# Altium footprint library XH-JST_2.5mm.PcbLib: 27 footprints (part 1 of 2)
Each footprint in its own frame and in the unit in brackets; x right, y up, seen from the top. Pads: shape width x height; smd on the part's side, far side on the other; paste and mask are expansions set on the pad; w line width, h text height; cw(c..) or ccw(c..) is an arc to the next point about the centre after c.
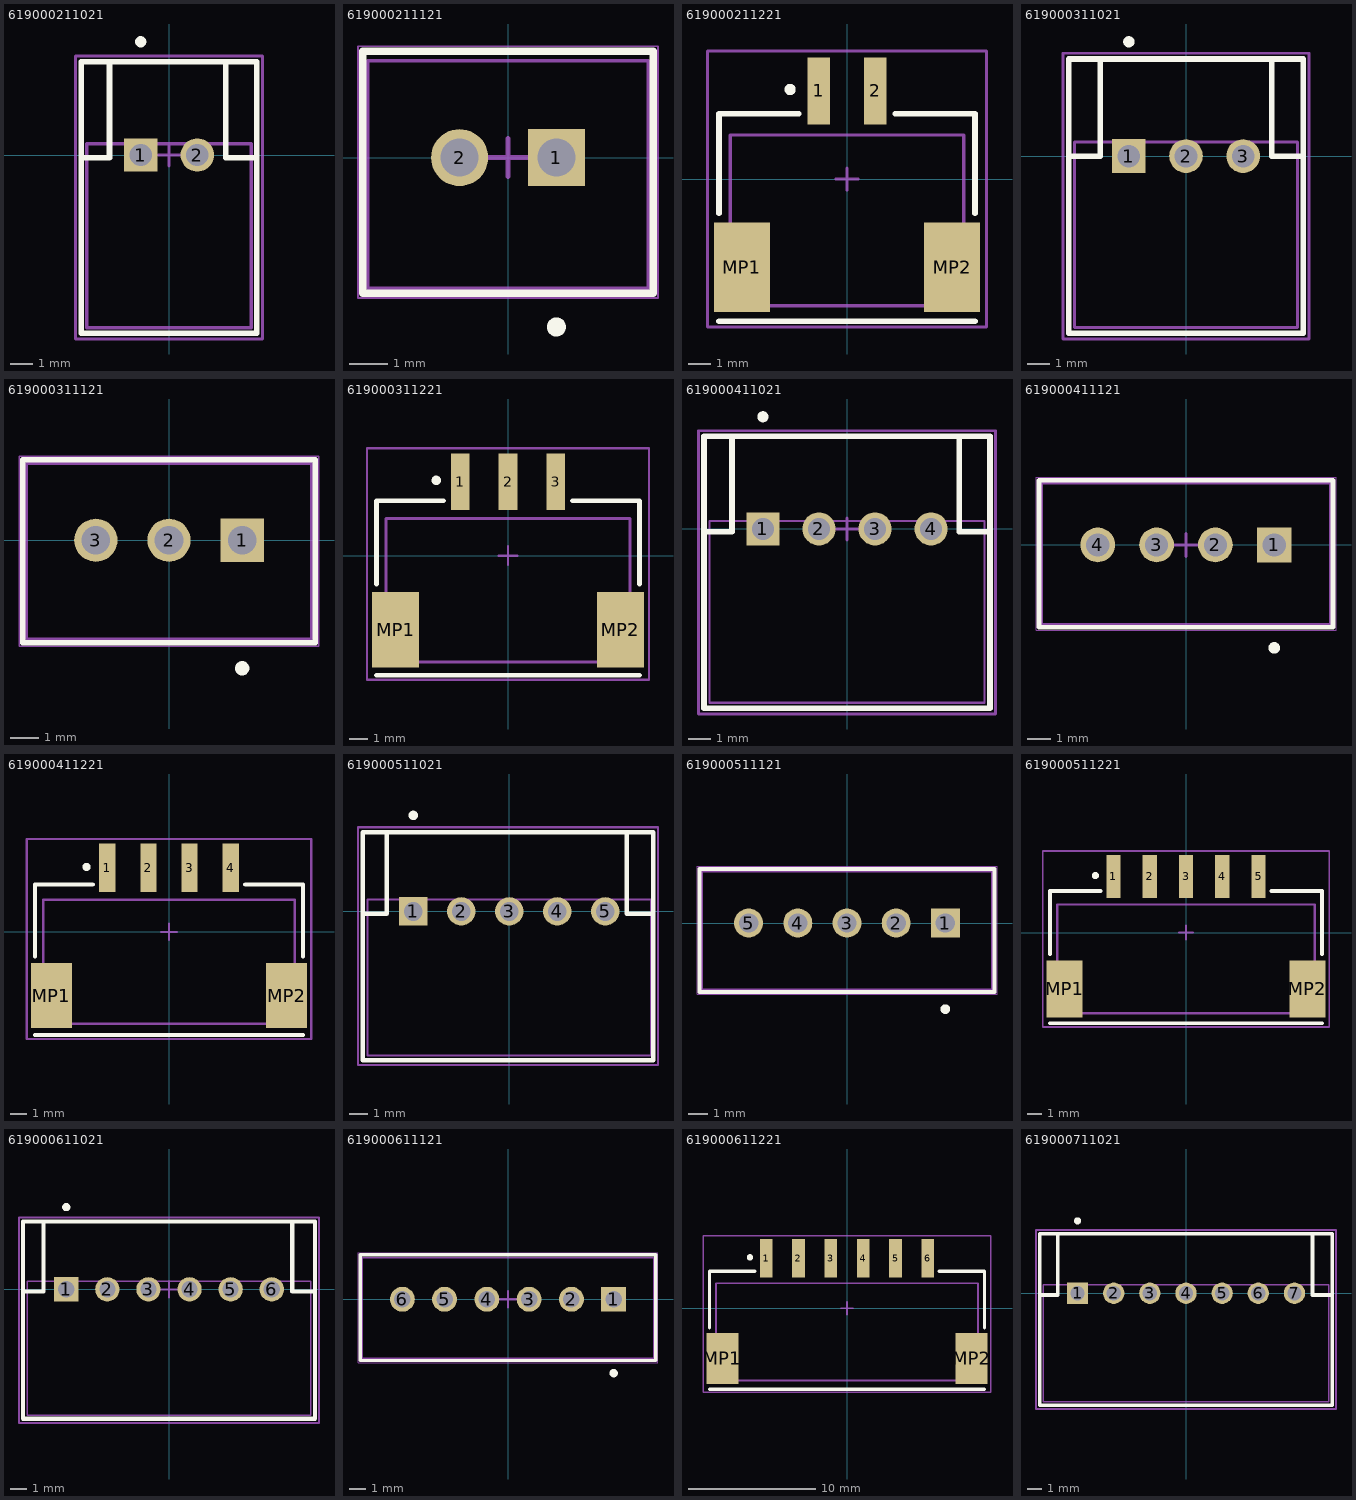
[diagram p0: the footprints below, top view; thin cyan lines are the x and y axes]

## 619000211021 [mm] "2.54mm Male Left Angled Header Bottom Locking, 2p"
height 5.8
pads (2):
  rect 1.5x1.5 hole 1: 1(-1.27,0)
  round 1.5 hole 1: 2(1.27,0)
Top Overlay:
  circle w0.25: c-1.27,5.08 r0.125
  lines w0.254: -3.937,-0.127 -2.667,-0.127 -2.667,4.191 ; 2.54,4.191 2.54,-0.127 3.937,-0.127 ; -3.937,-8.001 -3.937,4.191 3.937,4.191 3.937,-8.001 -3.937,-8.001
Top Courtyard:
  lines w0.127: -0.5,0 0.5,0 ; 0,-0.5 0,0.5
Mechanical 13:
  lines w0.152: -3.683,-7.747 -3.683,0.508 3.683,0.508 3.683,-7.747 -3.683,-7.747
Mechanical 15:
  lines w0.127: -4.191,-8.255 -4.191,4.445 4.191,4.445 4.191,-8.255 -4.191,-8.255
3D body "JST - XH - Thru (R) - 2Pin - 2.54mm.stp": height 5.84, standoff -3.38, extent -3.607,-7.661 3.607,0.376

## 619000211121 [mm] "2.54mm Male Locking Header, 2p"
height 11.5
pads (2):
  rect 1.5x1.5 hole 1: 1(1.27,0)
  round 1.5 hole 1: 2(-1.27,0)
Top Overlay:
  circle w0.25: c1.27,-4.445 r0.125
  lines w0.2: -3.81,-3.556 3.81,-3.556 3.81,2.794 -3.81,2.794 -3.81,-3.556
Top Courtyard:
  lines w0.127: -0.5,0 0.5,0 ; 0,-0.5 0,0.5
Mechanical 13:
  lines w0.1: -3.683,-3.429 -3.683,2.54 3.683,2.54 3.683,-3.429 -3.683,-3.429
Mechanical 15:
  lines w0.05: -3.937,-3.683 -3.937,2.921 3.937,2.921 3.937,-3.683 -3.937,-3.683
3D body "JST - XH - Thru (V) - 2Pin - 2.54mm.stp": height 7.21, standoff -3, extent -3.607,-3.399 3.607,2.443

## 619000211221 [mm] "2.54mm Male Left Angled Header Bottom Locking, 2p"
height 5.8
pads (4):
  rect 1x3 smd: 1(-1.27,3.937) 2(1.27,3.937)
  rect 2.5x4 smd: MP1(-4.699,-3.937) MP2(4.699,-3.937)
Top Overlay:
  circle w0.25: c-2.54,4 r0.125
  lines w0.254: -5.715,-6.35 5.715,-6.35 ; -5.715,-1.524 -5.715,2.921 -2.159,2.921 ; 2.159,2.921 5.715,2.921 5.715,-1.524
Top Courtyard:
  lines w0.127: -0.5,0 0.5,0 ; 0,-0.5 0,0.5
Mechanical 13:
  lines w0.152: -5.207,-5.651 -5.207,1.968 5.207,1.968 5.207,-5.651 -5.207,-5.651
Mechanical 15:
  lines w0.127: -6.223,-6.604 -6.223,5.715 6.223,5.715 6.223,-6.604 -6.223,-6.604
3D body "JST - XH - SMD (R) - 2Pin - 2.54mm.stp": height 5.92, standoff 0, extent -5.067,-5.651 5.067,4.255

## 619000311021 [mm] "2.54mm Male Left Angled Header Bottom Locking, 3p"
height 5.8
pads (3):
  rect 1.5x1.5 hole 1: 1(-2.54,0)
  round 1.5 hole 1: 2(0,0) 3(2.54,0)
Top Overlay:
  circle w0.25: c-2.54,5.08 r0.125
  lines w0.254: -5.08,0 -3.81,0 -3.81,4.318 ; 3.81,4.318 3.81,0 5.207,0 ; -5.207,-7.874 -5.207,4.318 5.207,4.318 5.207,-7.874 -5.207,-7.874
Top Courtyard:
  lines w0.127: -0.5,0 0.5,0 ; 0,-0.5 0,0.5
Mechanical 13:
  lines w0.127: -4.953,-7.62 4.953,-7.62 4.953,0.635 -4.953,0.635 -4.953,-7.62
Mechanical 15:
  lines w0.127: -5.461,-8.128 5.461,-8.128 5.461,4.572 -5.461,4.572 -5.461,-8.128
3D body "JST - XH - Thru (R) - 3Pin - 2.54mm.stp": height 5.84, standoff -3.38, extent -4.877,-7.534 4.877,0.503

## 619000311121 [mm] "2.54mm Male Locking Header, 3p"
height 11.5
pads (3):
  rect 1.5x1.5 hole 1: 1(2.54,0)
  round 1.5 hole 1: 2(0,0) 3(-2.54,0)
Top Overlay:
  circle w0.25: c2.54,-4.445 r0.125
  lines w0.2: -5.08,-3.556 -5.08,2.794 5.08,2.794 5.08,-3.556 -5.08,-3.556
Top Courtyard:
  lines w0.127: -0.5,0 0.5,0 ; 0,-0.5 0,0.5
Mechanical 13:
  lines w0.1: -4.953,-3.429 -4.953,2.667 4.953,2.667 4.953,-3.429 -4.953,-3.429
Mechanical 15:
  lines w0.05: -5.207,-3.683 5.207,-3.683 5.207,2.921 -5.207,2.921 -5.207,-3.683
3D body "JST - XH - Thru (V) - 3Pin - 2.54mm.stp": height 7.21, standoff -3, extent -4.877,-3.353 4.877,2.489

## 619000311221 [mm] "2.54mm Male Left Angled Header Bottom Locking, 3p, SMD"
height 5.8
pads (5):
  rect 1x3 smd: 1(-2.54,3.937) 2(0,3.937) 3(2.54,3.937)
  rect 2.5x4 smd: MP1(-5.969,-3.937) MP2(5.969,-3.937)
Top Overlay:
  circle w0.25: c-3.81,4 r0.125
  lines w0.254: -6.985,-6.35 6.985,-6.35 ; -6.985,-1.524 -6.985,2.921 -3.429,2.921 ; 3.429,2.921 6.985,2.921 6.985,-1.524
Top Courtyard:
  lines w0.127: -0.5,0 0.5,0 ; 0,-0.5 0,0.5
Mechanical 13:
  lines w0.152: -6.477,-5.651 -6.477,1.968 6.477,1.968 6.477,-5.651 -6.477,-5.651
Mechanical 15:
  lines w0.127: -7.493,-6.604 -7.493,5.715 7.493,5.715 7.493,-6.604 -7.493,-6.604
3D body "JST - XH - SMD (R) - 3Pin - 2.54mm.stp": height 5.92, standoff 0, extent -6.337,-5.588 6.337,4.318

## 619000411021 [mm] "2.54mm Male Left Angled Header Bottom Locking, 4p"
height 5.8
pads (4):
  rect 1.5x1.5 hole 1: 1(-3.81,0)
  round 1.5 hole 1: 2(-1.27,0) 3(1.27,0) 4(3.81,0)
Top Overlay:
  circle w0.25: c-3.81,5.08 r0.125
  lines w0.254: -6.477,-0.127 -5.207,-0.127 -5.207,4.191 ; 5.08,4.191 5.08,-0.127 6.477,-0.127 ; -6.477,-8.128 -6.477,4.191 6.477,4.191 6.477,-8.128 -6.477,-8.128
Top Courtyard:
  lines w0.127: -0.5,0 0.5,0 ; 0,-0.5 0,0.5
Mechanical 13:
  lines w0.1: -6.223,-7.874 -6.223,0.36 6.223,0.36 6.223,-7.874 -6.223,-7.874
Mechanical 15:
  lines w0.127: -6.731,-8.382 -6.731,4.445 6.731,4.445 6.731,-8.382 -6.731,-8.382
3D body "JST - XH - Thru (R) - 4Pin - 2.54mm.stp": height 5.84, standoff -3.38, extent -6.147,-7.745 6.147,0.292

## 619000411121 [mm] "2.54mm Male Locking Header, 4p"
height 11.5
pads (4):
  rect 1.5x1.5 hole 1: 1(3.81,0)
  round 1.5 hole 1: 2(1.27,0) 3(-1.27,0) 4(-3.81,0)
Top Overlay:
  circle w0.25: c3.81,-4.445 r0.125
  lines w0.2: -6.35,-3.556 -6.35,2.794 6.35,2.794 6.35,-3.556 -6.35,-3.556
Top Courtyard:
  lines w0.127: -0.5,0 0.5,0 ; 0,-0.5 0,0.5
Mechanical 13:
  lines w0.1: -6.223,-3.429 -6.223,2.667 6.223,2.667 6.223,-3.429 -6.223,-3.429
Mechanical 15:
  lines w0.05: -6.477,-3.683 6.477,-3.683 6.477,2.921 -6.477,2.921 -6.477,-3.683
3D body "JST - XH - Thru (V) - 4Pin - 2.54mm.stp": height 7.21, standoff -3, extent -6.147,-3.348 6.147,2.494

## 619000411221 [mm] "2.54mm Male Left Angled Header Bottom Locking, 4p, SMD"
height 5.8
pads (6):
  rect 1x3 smd: 1(-3.81,3.937) 2(-1.27,3.937) 3(1.27,3.937) 4(3.81,3.937)
  rect 2.5x4 smd: MP1(-7.239,-3.937) MP2(7.239,-3.937)
Top Overlay:
  circle w0.25: c-5.08,4 r0.125
  lines w0.254: -8.255,-6.35 8.255,-6.35 ; -8.255,-1.524 -8.255,2.921 -4.699,2.921 ; 4.699,2.921 8.255,2.921 8.255,-1.524
Top Courtyard:
  lines w0.127: -0.5,0 0.5,0 ; 0,-0.5 0,0.5
Mechanical 13:
  lines w0.152: -7.747,-5.651 7.747,-5.651 7.747,1.968 -7.747,1.968 -7.747,-5.651
Mechanical 15:
  lines w0.127: -8.763,-6.604 8.763,-6.604 8.763,5.715 -8.763,5.715 -8.763,-6.604
3D body "JST - XH - SMD (R) - 4Pin - 2.54mm.stp": height 5.92, standoff 0, extent -7.607,-5.588 7.607,4.318

## 619000511021 [mm] "2.54mm Male Locking Header, 5p"
height 11.5
pads (5):
  rect 1.5x1.5 hole 1: 1(-5.08,0)
  round 1.5 hole 1: 2(-2.54,0) 3(0,0) 4(2.54,0) 5(5.08,0)
Top Overlay:
  circle w0.25: c-5.08,5.08 r0.125
  lines w0.254: -7.747,-0.127 -6.477,-0.127 -6.477,4.191 ; 6.223,4.191 6.223,-0.127 7.62,-0.127 ; -7.747,-7.874 7.62,-7.874 7.62,4.191 -7.747,4.191 -7.747,-7.874
Top Courtyard:
  lines w0.127: -0.5,0 0.5,0 ; 0,-0.5 0,0.5
Mechanical 13:
  lines w0.1: -7.493,-7.62 -7.493,0.635 7.493,0.635 7.493,-7.62 -7.493,-7.62
Mechanical 15:
  lines w0.127: -8.001,-8.128 -8.001,4.445 7.874,4.445 7.874,-8.128 -8.001,-8.128
3D body "JST - XH - Thru (R) - 5Pin - 2.54mm.stp": height 5.84, standoff -3.38, extent -7.417,-7.534 7.417,0.503

## 619000511121 [mm] "2.54mm Male Locking Header, 5p"
height 11.5
pads (5):
  rect 1.5x1.5 hole 1: 1(5.08,0)
  round 1.5 hole 1: 2(2.54,0) 3(0,0) 4(-2.54,0) 5(-5.08,0)
Top Overlay:
  circle w0.25: c5.08,-4.445 r0.125
  lines w0.2: -7.62,-3.556 -7.62,2.794 7.62,2.794 7.62,-3.556 -7.62,-3.556
Top Courtyard:
  lines w0.127: -0.5,0 0.5,0 ; 0,-0.5 0,0.5
Mechanical 13:
  lines w0.1: -7.493,-3.429 -7.493,2.667 7.493,2.667 7.493,-3.429 -7.493,-3.429
Mechanical 15:
  lines w0.05: -7.747,-3.683 7.747,-3.683 7.747,2.921 -7.747,2.921 -7.747,-3.683
3D body "JST - XH - Thru (V) - 5Pin - 2.54mm.stp": height 7.21, standoff -3, extent -7.417,-3.348 7.417,2.494

## 619000511221 [mm] "2.54mm Male Left Angled Header Bottom Locking, 5p, SMD"
height 5.8
pads (7):
  rect 1x3 smd: 1(-5.08,3.937) 2(-2.54,3.937) 3(0,3.937) 4(2.54,3.937) 5(5.08,3.937)
  rect 2.5x4 smd: MP1(-8.509,-3.937) MP2(8.509,-3.937)
Top Overlay:
  circle w0.25: c-6.35,4 r0.125
  lines w0.254: -9.525,-6.35 9.525,-6.35 ; -9.525,-1.524 -9.525,2.921 -5.969,2.921 ; 5.969,2.921 9.525,2.921 9.525,-1.524
Top Courtyard:
  lines w0.127: -0.5,0 0.5,0 ; 0,-0.5 0,0.5
Mechanical 13:
  lines w0.152: -9.017,-5.651 9.017,-5.651 9.017,1.968 -9.017,1.968 -9.017,-5.651
Mechanical 15:
  lines w0.127: -10.033,-6.604 10.033,-6.604 10.033,5.715 -10.033,5.715 -10.033,-6.604
3D body "JST - XH - SMD (R) - 5Pin - 2.54mm.stp": height 5.92, standoff 0, extent -8.877,-5.588 8.877,4.318

## 619000611021 [mm] "2.54mm Male Locking Header, 6p"
height 11.5
pads (6):
  rect 1.5x1.5 hole 1: 1(-6.35,0)
  round 1.5 hole 1: 2(-3.81,0) 3(-1.27,0) 4(1.27,0) 5(3.81,0) 6(6.35,0)
Top Overlay:
  circle w0.25: c-6.35,5.08 r0.125
  lines w0.254: -9.017,-0.127 -7.747,-0.127 -7.747,4.191 ; 7.62,4.191 7.62,-0.127 9.017,-0.127 ; -9.017,-8.001 -9.017,4.191 9.017,4.191 9.017,-8.001 -9.017,-8.001
Top Courtyard:
  lines w0.127: -0.5,0 0.5,0 ; 0,-0.5 0,0.5
Mechanical 13:
  lines w0.1: -8.763,-7.793 8.763,-7.793 8.763,0.508 -8.763,0.508 -8.763,-7.793
Mechanical 15:
  lines w0.127: -9.271,-8.255 -9.271,4.445 9.271,4.445 9.271,-8.255 -9.271,-8.255
3D body "JST - XH - Thru (R) - 6Pin - 2.54mm.stp": height 5.84, standoff -3.38, extent -8.687,-7.707 8.687,0.33

## 619000611121 [mm] "2.54mm Male Locking Header, 6p"
height 11.5
pads (6):
  rect 1.5x1.5 hole 1: 1(6.35,0)
  round 1.5 hole 1: 2(3.81,0) 3(1.27,0) 4(-1.27,0) 5(-3.81,0) 6(-6.35,0)
Top Overlay:
  circle w0.25: c6.35,-4.445 r0.125
  lines w0.2: -8.89,-3.683 -8.89,2.667 8.89,2.667 8.89,-3.683 -8.89,-3.683
Top Courtyard:
  lines w0.127: -0.5,0 0.5,0 ; 0,-0.5 0,0.5
Mechanical 13:
  lines w0.1: -8.763,-3.556 -8.763,2.494 8.763,2.494 8.763,-3.556 -8.763,-3.556
Mechanical 15:
  lines w0.05: -9.017,-3.81 9.017,-3.81 9.017,2.794 -9.017,2.794 -9.017,-3.81
3D body "JST - XH - Thru (V) - 6Pin - 2.54mm.stp": height 7.21, standoff -3, extent -8.687,-3.399 8.687,2.443

## 619000611221 [mm] "2.54mm Male Left Angled Header Bottom Locking, 6p, SMD"
height 5.8
pads (8):
  rect 1x3 smd: 1(-6.35,3.937) 2(-3.81,3.937) 3(-1.27,3.937) 4(1.27,3.937) 5(3.81,3.937) 6(6.35,3.937)
  rect 2.5x4 smd: MP1(-9.779,-3.937) MP2(9.779,-3.937)
Top Overlay:
  circle w0.25: c-7.62,4 r0.125
  lines w0.254: -10.795,-6.35 10.795,-6.35 ; -10.795,-1.524 -10.795,2.921 -7.239,2.921 ; 7.239,2.921 10.795,2.921 10.795,-1.524
Top Courtyard:
  lines w0.127: -0.5,0 0.5,0 ; 0,-0.5 0,0.5
Mechanical 13:
  lines w0.152: -10.287,-5.651 -10.287,1.968 10.287,1.968 10.287,-5.651 -10.287,-5.651
Mechanical 15:
  lines w0.127: -11.303,-6.604 -11.303,5.715 11.303,5.715 11.303,-6.604 -11.303,-6.604
3D body "JST - XH - SMD (R) - 6Pin - 2.54mm.stp": height 5.92, standoff 0, extent -10.147,-5.588 10.147,4.318

## 619000711021 [mm] "2.54mm Male Locking Header, 7p"
height 11.5
pads (7):
  rect 1.5x1.5 hole 1: 1(-7.62,0)
  round 1.5 hole 1: 2(-5.08,0) 3(-2.54,0) 4(0,0) 5(2.54,0) 6(5.08,0) 7(7.62,0)
Top Overlay:
  circle w0.25: c-7.62,5.08 r0.125
  lines w0.254: -10.287,-0.127 -9.017,-0.127 -9.017,4.191 ; 8.89,4.191 8.89,-0.127 10.287,-0.127 ; -10.287,-7.874 10.287,-7.874 10.287,4.191 -10.287,4.191 -10.287,-7.874
Top Courtyard:
  lines w0.127: -0.5,0 0.5,0 ; 0,-0.5 0,0.5
Mechanical 13:
  lines w0.1: -10.033,-7.62 -10.033,0.589 10.033,0.589 10.033,-7.62 -10.033,-7.62
Mechanical 15:
  lines w0.127: -10.541,-8.128 10.541,-8.128 10.541,4.445 -10.541,4.445 -10.541,-8.128
3D body "JST - XH - Thru (R) - 7Pin - 2.54mm.stp": height 5.84, standoff -3.38, extent -9.957,-7.534 9.957,0.503